# Altium schematic symbol library MCP73831.SchLib: 1 symbol
Pins are listed as number, name and electrical type; pins without a type are passive.

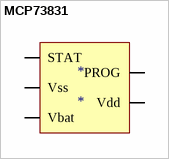
[diagram p0: symbol MCP73831]

## MCP73831
designator *
Li-Charge Management Controllers
footprint SOT23127P600-8N
pins: 1 STAT, 2 Vss, 3 Vbat, 4 Vdd, 5 PROG